# Altium schematic symbol library CM0_symbol.SchLib: 1 symbol
Pins are listed as number, name and electrical type; pins without a type are passive.

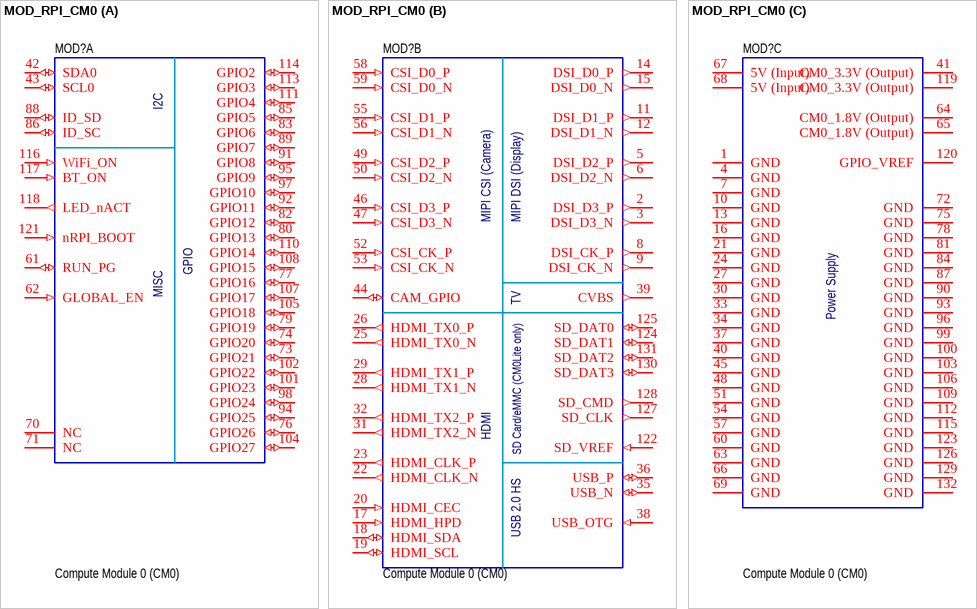
[diagram p0: symbol MOD_RPI_CM0]

## MOD_RPI_CM0
designator MOD?, comment Compute Module 0 (CM0)
PCB Module; RPi Compute Module 0 (CM0);; Manufacturer: Raspberry Pi Ltd; MPN: CM0x000xx; Value: Compute Module 0 (CM0)
part A pins: 42 SDA0 (io), 43 SCL0 (io), 61 RUN_PG (io), 62 GLOBAL_EN (in), 70 NC, 71 NC, 73 GPIO21 (io), 74 GPIO20 (io), 76 GPIO26 (io), 77 GPIO16 (io), 79 GPIO19 (io), 80 GPIO13 (io), 82 GPIO12 (io), 83 GPIO6 (io), 85 GPIO5 (io), 86 ID_SC (io), 88 ID_SD (io), 89 GPIO7 (io), 91 GPIO8 (io), 92 GPIO11 (io), 94 GPIO25 (io), 95 GPIO9 (io), 97 GPIO10 (io), 98 GPIO24 (io), 101 GPIO23 (io), 102 GPIO22 (io), 104 GPIO27 (io), 105 GPIO18 (io), 107 GPIO17 (io), 108 GPIO15 (io), 110 GPIO14 (io), 111 GPIO4 (io), 113 GPIO3 (io), 114 GPIO2 (io), 116 WiFi_ON (in), 117 BT_ON (in), 118 LED_nACT (out), 121 nRPI_BOOT (in)
part B pins: 2 DSI_D3_P (out), 3 DSI_D3_N (out), 5 DSI_D2_P (out), 6 DSI_D2_N (out), 8 DSI_CK_P (out), 9 DSI_CK_N (out), 11 DSI_D1_P (out), 12 DSI_D1_N (out), 14 DSI_D0_P (out), 15 DSI_D0_N (out), 17 HDMI_HPD (in), 18 HDMI_SDA (io), 19 HDMI_SCL (io), 20 HDMI_CEC (in), 22 HDMI_CLK_N (out), 23 HDMI_CLK_P (out), 25 HDMI_TX0_N (out), 26 HDMI_TX0_P (out), 28 HDMI_TX1_N (out), 29 HDMI_TX1_P (out), 31 HDMI_TX2_N (out), 32 HDMI_TX2_P (out), 35 USB_N (io), 36 USB_P (io), 38 USB_OTG (in), 39 CVBS (out), 44 CAM_GPIO (io), 46 CSI_D3_P (in), 47 CSI_D3_N (in), 49 CSI_D2_P (in), 50 CSI_D2_N (in), 52 CSI_CK_P (in), 53 CSI_CK_N (in), 55 CSI_D1_P (in), 56 CSI_D1_N (in), 58 CSI_D0_P (in), 59 CSI_D0_N (in), 122 SD_VREF (in), 124 SD_DAT1 (io), 125 SD_DAT0 (io), 127 SD_CLK (out), 128 SD_CMD (out), 130 SD_DAT3 (io), 131 SD_DAT2 (io)
part C pins: 1 GND (power), 4 GND (power), 7 GND (power), 10 GND (power), 13 GND (power), 16 GND (power), 21 GND (power), 24 GND (power), 27 GND (power), 30 GND (power), 33 GND (power), 34 GND (power), 37 GND (power), 40 GND (power), 41 CM0_3.3V (Output) (power), 45 GND (power), 48 GND (power), 51 GND (power), 54 GND (power), 57 GND (power), 60 GND (power), 63 GND (power), 64 CM0_1.8V (Output) (power), 65 CM0_1.8V (Output) (power), 66 GND (power), 67 5V (Input) (power), 68 5V (Input) (power), 69 GND (power), 72 GND (power), 75 GND (power), 78 GND (power), 81 GND (power), 84 GND (power), 87 GND (power), 90 GND (power), 93 GND (power), 96 GND (power), 99 GND (power), 100 GND (power), 103 GND (power), 106 GND (power), 109 GND (power), 112 GND (power), 115 GND (power), 119 CM0_3.3V (Output) (power), 120 GPIO_VREF (power), 123 GND (power), 126 GND (power), 129 GND (power), 132 GND (power)
part A text: I2C; GPIO; MISC
part B text: MIPI CSI (Camera); MIPI DSI (Display); TV; HDMI; SD Card/eMMC (CM0Lite only); USB 2.0 HS
part C text: Power Supply